# EAGLE library part 687116149022 (library SamacSys_Parts)
Wurth Elektronik WR-FPC Series 0.5mm Pitch 16 Way Horizontal SMT Female FPC Connector, ZIF Bottom Contact Source: Datasheet
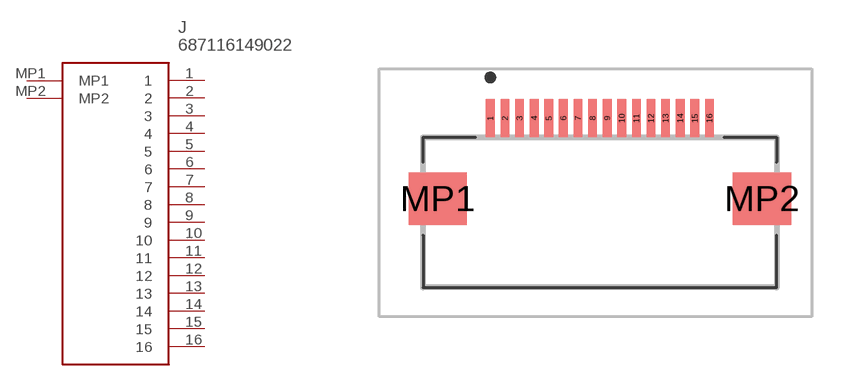
[diagram p8: symbol with the pads of 687116149022; footprint 687116149022]

Designator prefix J

## 687116149022 (DESCRIPTION: Wurth Elektronik WR-FPC Series 0.5mm Pitch 16 Way Horizontal SMT Female FPC Connector, ZIF Bottom Contact; HEIGHT: 4mm; MANUFACTURER_NAME: Wurth Elektronik; MANUFACTURER_PART_NUMBER: 687116149022; MOUSER_PART_NUMBER: 710-687116149022; MOUSER_PRICE-STOCK: https://www.mouser.co.uk/ProductDetail/Wurth-Elektronik/687116149022/?qs=a9WhcLg8qCxjYRbAh4WpMA%3D%3D)  [687116149022]
1  1
2  2
3  3
4  4
5  5
6  6
7  7
8  8
9  9
10  10
11  11
12  12
13  13
14  14
15  15
16  16
MP1  MP1
MP2  MP2

## Footprint 687116149022 (pad centres in mm)
687116149022-2
smd 0.3 x 1.3: 1 -3.6,2.55; 2 -3.1,2.55; 3 -2.6,2.55; 4 -2.1,2.55; 5 -1.6,2.55; 6 -1.1,2.55; 7 -0.6,2.55; 8 -0.1,2.55; 9 0.4,2.55; 10 0.9,2.55; 11 1.4,2.55; 12 1.9,2.55; 13 2.4,2.55; 14 2.9,2.55; 15 3.4,2.55; 16 3.9,2.55
smd 2 x 1.8: MP1 -5.4,-0.2; MP2 5.7,-0.2